# Altium schematic symbol library Swage.SchLib: 214 symbols (part 3 of 5)
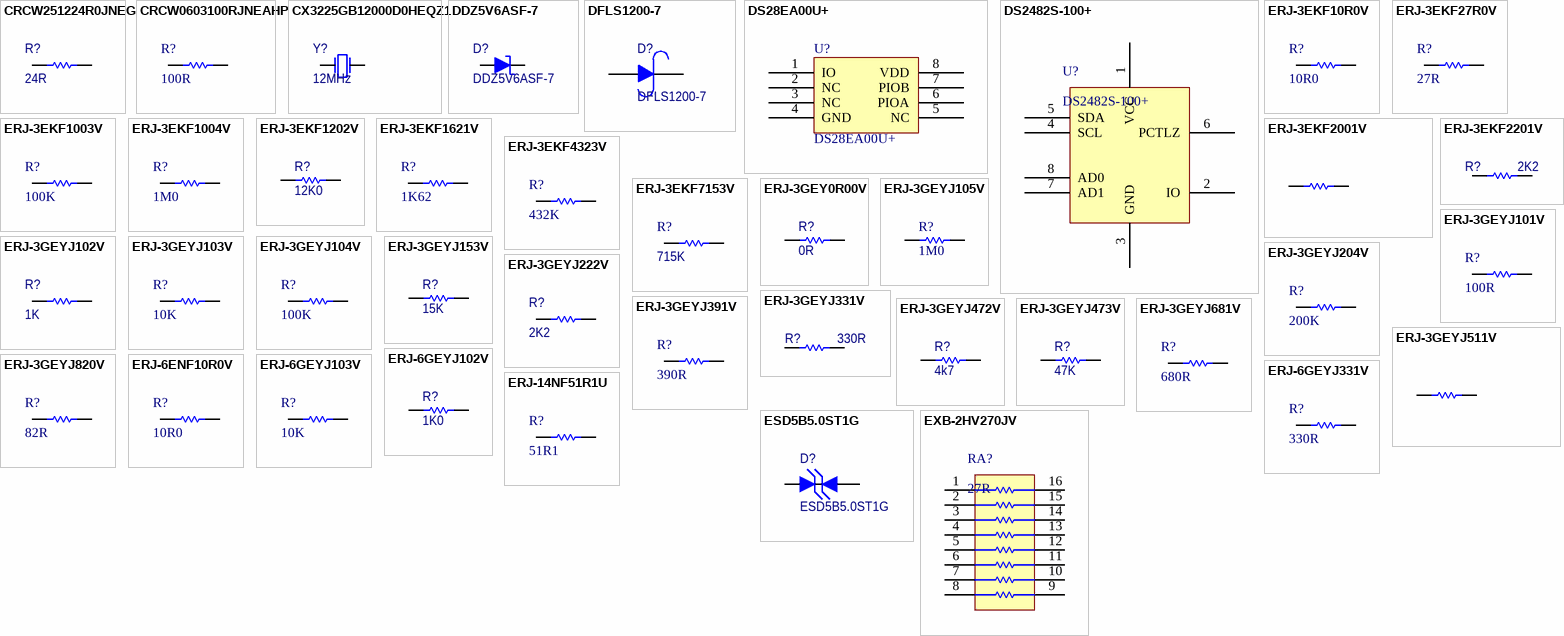
[diagram p7: symbols CRCW251224R0JNEG to EXB-2HV270JV]

## ERJ-3GEYJ222V
designator R?, comment 2K2
RES 2.2K OHM 1/10W 5% 0603 SMD; Manufacturer: Panasonic Electronic Components; Manufacturer Part Number: ERJ-3GEYJ222V; Power (Watts): 0.1W, 1/10W; Temperature Coefficient: ±200ppm/°C; OPI_VID: 101388; Supplier 1: Digi-Key; Supplier Part Number 1: P2.2KGTR-ND; RoHS: RoHS Compliant; Category: Resistors; Stock 1: 970000; Pricing 1: 5000=0.00176, 10000=0.00153, 25000=0.00134, 50000=0.00123, 125000=0.00121 (CAD); Resistance (Ohms): 2.2k; Composition: Thick Film; Features: -; Tolerance: ±5%; Package / Case: 0603 (1608 Metric); Supplier Device Package: 0603; Size / Dimension: 0.063" L x 0.031" W (1.60mm x 0.80mm); Height: 0.022" (0.55mm); Number of Terminations: 2; Packaging: Tape & Reel (TR); ComponentLink1URL: http://industrial.panasonic.com/www-cgi/jvcr13pz.cgi?E+PZ+3+AOA0001+ERJ3GEYJ222V+7+WW; ComponentLink1Description: http://industrial.panasonic.com/www-cgi/jvcr13pz.cgi?E+PZ+3+AOA0001+ERJ3GEYJ222V+7+WW
footprint RC0603 (Resistor, Capacitor, 0603)
pins: 1, 2

## ERJ-3GEYJ331V
designator R?, comment 330R
RES 330 OHM 1/10W 5% 0603 SMD; Manufacturer: Panasonic - ECG; Manufacturer Part Number: ERJ-3GEYJ331V; Resistance (Ohms): 330; Power (Watts): 0.1W, 1/10W; Temperature Coefficient: ±200ppm/°C; OPI_VID: 101171; Supplier 1: Digi-Key; Supplier Part Number 1: P330GCT-ND; RoHS: RoHS Compliant; Category: Resistors; Stock 1: 1334001; Pricing 1: 1=0.02, 50=0.0104, 100=0.0079, 250=0.00588, 500=0.00434, 1000=0.0029 (CAD); Composition: Thick Film; Features: -; Tolerance: ±5%; Size / Dimension: 0.063" L x 0.031" W (1.60mm x 0.80mm); Height: 0.022" (0.55mm); Number of Terminations: 2; Packaging: Cut Tape (CT); Package / Case: 0603 (1608 Metric); ComponentLink1URL: http://industrial.panasonic.com/www-cgi/jvcr13pz.cgi?E+PZ+3+AOA0001+ERJ3GEYJ331V+7+WW; ComponentLink1Description: http://industrial.panasonic.com/www-cgi/jvcr13pz.cgi?E+PZ+3+AOA0001+ERJ3GEYJ331V+7+WW
footprint RC0603 (Resistor, Capacitor, 0603)
pins: 1, 2

## ERJ-3GEYJ391V
designator R?, comment 390R
RES 390 OHM 1/10W 5% 0603 SMD; Manufacturer: Panasonic Electronic Components; Manufacturer Part Number: ERJ-3GEYJ391V; Resistance (Ohms): 390; Power (Watts): 0.1W, 1/10W; Temperature Coefficient: ±200ppm/°C; OPI_VID: 101357; Supplier 1: Digi-Key; RoHS: RoHS Compliant; Category: Resistors; Stock 1: 1115000; Pricing 1: 5000=0.00174, 10000=0.00151, 25000=0.00132, 50000=0.00122, 125000=0.00119 (CAD); Composition: Thick Film; Features: -; Tolerance: ±5%; Package / Case: 0603 (1608 Metric); Size / Dimension: 0.063" L x 0.031" W (1.60mm x 0.80mm); Height: 0.022" (0.55mm); Number of Terminations: 2; Packaging: Tape & Reel (TR); ComponentLink1URL: http://industrial.panasonic.com/www-cgi/jvcr13pz.cgi?E+PZ+3+AOA0001+ERJ3GEYJ391V+7+WW; ComponentLink1Description: http://industrial.panasonic.com/www-cgi/jvcr13pz.cgi?E+PZ+3+AOA0001+ERJ3GEYJ391V+7+WW; Supplier Part Number 1: P390GTR-ND
footprint RC0603 (Resistor, Capacitor, 0603)
pins: 1, 2

## ERJ-3GEYJ472V
designator R?, comment 4k7
RES 4.7K OHM 1/10W 5% 0603 SMD; Manufacturer: Panasonic - ECG; Manufacturer Part Number: ERJ-3GEYJ472V; Power (Watts): 0.1W, 1/10W; Temperature Coefficient: ±200ppm/°C; OPI_VID: 101175; Supplier 1: Digi-Key; Supplier Part Number 1: P4.7KGTR-ND; RoHS: RoHS Compliant; Category: Resistors; Stock 1: 6230000; Pricing 1: 5000=0.00174, 10000=0.00151, 25000=0.00132 (CAD); Resistance (Ohms): 4.7K; Composition: Thick Film; Features: -; Tolerance: ±5%; Size / Dimension: 0.063" L x 0.031" W (1.60mm x 0.80mm); Height: 0.022" (0.55mm); Number of Terminations: 2; Packaging: Tape & Reel (TR); Package / Case: 0603 (1608 Metric); ComponentLink1URL: http://industrial.panasonic.com/www-cgi/jvcr13pz.cgi?E+PZ+3+AOA0001+ERJ3GEYJ472V+7+WW; ComponentLink1Description: http://industrial.panasonic.com/www-cgi/jvcr13pz.cgi?E+PZ+3+AOA0001+ERJ3GEYJ472V+7+WW
footprint RC0603 (Resistor, Capacitor, 0603)
pins: 1, 2

## ERJ-3GEYJ473V
designator R?, comment 47K
RES 47K OHM 1/10W 5% 0603 SMD; Manufacturer: Panasonic - ECG; Manufacturer Part Number: ERJ-3GEYJ473V; Category 1: Resistors; Power (Watts): 0.1W, 1/10W; Temperature Coefficient: ±200ppm/°C; OPI_VID: 101043; Supplier 1: Digi-Key; Supplier Part Number 1: P47KGTR-ND; RoHS 1: RoHS Compliant; Description 1: RES 47K OHM 1/10W 5% 0603 SMD; Stock 1: 2125000; Pricing 1: 5000=0.00171, 10000=0.00149, 25000=0.00131 (USD); Resistance (Ohms): 47K; Composition: Thick Film; Features: -; Tolerance: ±5%; Size / Dimension: 0.063" L x 0.031" W (1.60mm x 0.80mm); Height: 0.018" (0.45mm); Lead Style: Surface Mount (SMD - SMT); Packaging: Tape & Reel (TR); Package / Case: 0603 (1608 Metric); ComponentLink1URL: http://industrial.panasonic.com/www-cgi/jvcr13pz.cgi?E+PZ+3+AOA0001+ERJ3GEYJ473V+7+WW; ComponentLink1Description: http://industrial.panasonic.com/www-cgi/jvcr13pz.cgi?E+PZ+3+AOA0001+ERJ3GEYJ473V+7+WW
footprint RC0603 (Resistor, Capacitor, 0603)
pins: 1, 2

## ERJ-3GEYJ511V
designator R?, comment 510R
RES 510 OHM 1/10W 5% 0603 SMD; Manufacturer: Panasonic Electronic Components; Manufacturer Part Number: ERJ-3GEYJ511V; Resistance (Ohms): 510; Power (Watts): 0.1W, 1/10W; Temperature Coefficient: ±200ppm/°C; OPI_VID: 101486; Supplier 1: Digi-Key; Supplier Part Number 1: P510GCT-ND; RoHS: RoHS Compliant; Category: Resistors; Stock 1: 298352; Pricing 1: 1=0.12, 50=0.011, 100=0.0083, 250=0.0062, 500=0.00458, 1000=0.00305 (CAD); Packaging: Cut Tape (CT); Composition: Thick Film; Features: -; Tolerance: ±5%; Package / Case: 0603 (1608 Metric); Supplier Device Package: 0603; Size / Dimension: 0.063" L x 0.031" W (1.60mm x 0.80mm); Height: 0.022" (0.55mm); Number of Terminations: 2; ComponentLink1URL: http://industrial.panasonic.com/www-cgi/jvcr13pz.cgi?E+PZ+3+AOA0001+ERJ3GEYJ511V+7+WW; ComponentLink1Description: http://industrial.panasonic.com/www-cgi/jvcr13pz.cgi?E+PZ+3+AOA0001+ERJ3GEYJ511V+7+WW
footprint RC0603 (Resistor, Capacitor, 0603)
pins: 1, 2

## ERJ-3GEYJ681V
designator R?, comment 680R
RES 680 OHM 1/10W 5% 0603 SMD; Manufacturer: Panasonic Electronic Components; Manufacturer Part Number: ERJ-3GEYJ681V; Resistance (Ohms): 680; Power (Watts): 0.1W, 1/10W; Temperature Coefficient: ±200ppm/°C; OPI_VID: 100570; Supplier 1: Digi-Key; Supplier Part Number 1: P680GTR-ND; RoHS: RoHS Compliant; Category: Resistors; Stock 1: 1750000; Pricing 1: 5000=0.0018, 10000=0.00156, 25000=0.00137, 50000=0.00126, 125000=0.00123 (CAD); Composition: Thick Film; Features: -; Tolerance: ±5%; Package / Case: 0603 (1608 Metric); Supplier Device Package: 0603; Size / Dimension: 0.063" L x 0.031" W (1.60mm x 0.80mm); Height: 0.022" (0.55mm); Number of Terminations: 2; Packaging: Tape & Reel (TR); ComponentLink1URL: http://industrial.panasonic.com/www-cgi/jvcr13pz.cgi?E+PZ+3+AOA0001+ERJ3GEYJ681V+7+WW; ComponentLink1Description: http://industrial.panasonic.com/www-cgi/jvcr13pz.cgi?E+PZ+3+AOA0001+ERJ3GEYJ681V+7+WW
footprint RC0603 (Resistor, Capacitor, 0603)
pins: 1, 2

## ERJ-3GEYJ820V
designator R?, comment 82R
RES 82 OHM 1/10W 5% 0603 SMD; Manufacturer: Panasonic Electronic Components; Manufacturer Part Number: ERJ-3GEYJ820V; Resistance (Ohms): 82; Power (Watts): 0.1W, 1/10W; Temperature Coefficient: ±200ppm/°C; OPI_VID: 101409; Supplier 1: Digi-Key; Supplier Part Number 1: P82GTR-ND; RoHS: RoHS Compliant; Category: Resistors; Stock 1: 35000; Pricing 1: 5000=0.0018, 10000=0.00156, 25000=0.00137, 50000=0.00126, 125000=0.00123 (CAD); Composition: Thick Film; Features: -; Tolerance: ±5%; Package / Case: 0603 (1608 Metric); Supplier Device Package: 0603; Size / Dimension: 0.063" L x 0.031" W (1.60mm x 0.80mm); Height: 0.022" (0.55mm); Number of Terminations: 2; Packaging: Tape & Reel (TR); ComponentLink1URL: http://industrial.panasonic.com/www-cgi/jvcr13pz.cgi?E+PZ+3+AOA0001+ERJ3GEYJ820V+7+WW; ComponentLink1Description: http://industrial.panasonic.com/www-cgi/jvcr13pz.cgi?E+PZ+3+AOA0001+ERJ3GEYJ820V+7+WW
footprint RC0603 (Resistor, Capacitor, 0603)
pins: 1, 2

## ERJ-6ENF10R0V
designator R?, comment 10R0
RES 10.0 OHM 1/8W 1% 0805 SMD; Manufacturer: Panasonic Electronic Components; Manufacturer Part Number: ERJ-6ENF10R0V; Resistance (Ohms): 10; Power (Watts): 0.125W, 1/8W; Temperature Coefficient: ±100ppm/°C; OPI_VID: xxxxx; Supplier 1: Digi-Key; RoHS: RoHS Compliant; Category: Resistors; Stock 1: 710000; Pricing 1: 5000=0.00521, 10000=0.00452, 25000=0.00397, 50000=0.00364, 125000=0.00357 (CAD); Composition: Thick Film; Features: -; Tolerance: ±1%; Package / Case: 0805 (2012 Metric); Size / Dimension: 0.079" L x 0.049" W (2.00mm x 1.25mm); Height: 0.028" (0.70mm); Number of Terminations: 2; Packaging: Tape & Reel (TR); ComponentLink1URL: http://industrial.panasonic.com/www-cgi/jvcr13pz.cgi?E+PZ+3+AOA0002+ERJ6ENF10R0V+7+WW; ComponentLink1Description: http://industrial.panasonic.com/www-cgi/jvcr13pz.cgi?E+PZ+3+AOA0002+ERJ6ENF10R0V+7+WW; Supplier Part Number 1: P10.0CTR-ND
footprint RC0805
pins: 1, 2

## ERJ-6GEYJ102V
designator R?, comment 1K0
RES 1.0K OHM 1/8W 5% 0805 SMD; Manufacturer: Panasonic - ECG; Manufacturer Part Number: ERJ-6GEYJ102V; Resistance (Ohms): 1K; Power (Watts): 0.125W, 1/8W; Temperature Coefficient: ±200ppm/°C; OPI_VID: 101218; Supplier 1: Digi-Key; Stock 1: 2885000; Composition: Thick Film; Features: -; Tolerance: ±5%; Size / Dimension: 0.079" L x 0.049" W (2.00mm x 1.25mm); Height: 0.028" (0.70mm); Number of Terminations: 2; Packaging: Tape & Reel (TR); Package / Case: 0805 (2012 Metric); ComponentLink1URL: http://industrial.panasonic.com/www-cgi/jvcr13pz.cgi?E+PZ+3+AOA0001+ERJ6GEYJ102V+7+WW; ComponentLink1Description: http://industrial.panasonic.com/www-cgi/jvcr13pz.cgi?E+PZ+3+AOA0001+ERJ6GEYJ102V+7+WW; Supplier Part Number 1: P1.0KATR-ND; RoHS: RoHS Compliant; Category: Resistors; Pricing 1: 5000=0.00301, 10000=0.00262, 25000=0.0023 (CAD)
footprint 0805
footprint RC0805
pins: 1, 2

## ERJ-6GEYJ103V
designator R?, comment 10K
RES 10K OHM 1/8W 5% 0805 SMD; Manufacturer: Panasonic Electronic Components; Manufacturer Part Number: ERJ-6GEYJ103V; Power (Watts): 0.125W, 1/8W; Temperature Coefficient: ±200ppm/°C; OPI_VID: 101242; Supplier 1: Digi-Key; RoHS: RoHS Compliant; Category: Resistors; Stock 1: 5145000; Pricing 1: 5000=0.00304, 10000=0.00264, 25000=0.00232, 50000=0.00213, 125000=0.00208 (CAD); Resistance (Ohms): 10k; Composition: Thick Film; Features: -; Tolerance: ±5%; Package / Case: 0805 (2012 Metric); Size / Dimension: 0.079" L x 0.049" W (2.00mm x 1.25mm); Height: 0.028" (0.70mm); Number of Terminations: 2; Packaging: Tape & Reel (TR); ComponentLink1URL: http://industrial.panasonic.com/www-cgi/jvcr13pz.cgi?E+PZ+3+AOA0001+ERJ6GEYJ103V+7+WW; ComponentLink1Description: http://industrial.panasonic.com/www-cgi/jvcr13pz.cgi?E+PZ+3+AOA0001+ERJ6GEYJ103V+7+WW; Supplier Part Number 1: P10KATR-ND
footprint RC0805
pins: 1, 2

## ERJ-6GEYJ331V
designator R?, comment 330R
RES 330 OHM 1/8W 5% 0805 SMD; Manufacturer: Panasonic Electronic Components; Manufacturer Part Number: ERJ-6GEYJ331V; Resistance (Ohms): 330; Power (Watts): 0.125W, 1/8W; Temperature Coefficient: ±200ppm/°C; OPI_VID: 101386; Supplier 1: Digi-Key; RoHS: RoHS Compliant; Category: Resistors; Stock 1: 895000; Pricing 1: 5000=0.00304, 10000=0.00264, 25000=0.00232, 50000=0.00213, 125000=0.00208 (CAD); Composition: Thick Film; Features: -; Tolerance: ±5%; Package / Case: 0805 (2012 Metric); Size / Dimension: 0.079" L x 0.049" W (2.00mm x 1.25mm); Height: 0.028" (0.70mm); Number of Terminations: 2; Packaging: Tape & Reel (TR); ComponentLink1URL: http://industrial.panasonic.com/www-cgi/jvcr13pz.cgi?E+PZ+3+AOA0001+ERJ6GEYJ331V+7+WW; ComponentLink1Description: http://industrial.panasonic.com/www-cgi/jvcr13pz.cgi?E+PZ+3+AOA0001+ERJ6GEYJ331V+7+WW; Supplier Part Number 1: P330ATR-ND
footprint RC0805
pins: 1, 2

## ERJ-14NF51R1U
designator R?, comment 51R1
RES 51.1 OHM 1/2W 1% 1210 SMD; Manufacturer: Panasonic Electronic Components; Manufacturer Part Number: ERJ-14NF51R1U; Resistance (Ohms): 51.1; Power (Watts): 0.5W, 1/2W; Temperature Coefficient: ±100ppm/°C; OPI_VID: 101382; Supplier 1: Digi-Key; RoHS: RoHS Compliant; Category: Resistors; Stock 1: 20000; Pricing 1: 5000=0.03979, 10000=0.03714, 25000=0.03528, 50000=0.03456, 125000=0.03382 (CAD); Composition: Thick Film; Features: -; Tolerance: ±1%; Package / Case: 1210 (3225 Metric); Supplier Device Package: 1210; Size / Dimension: 0.126" L x 0.098" W (3.20mm x 2.50mm); Height: 0.028" (0.70mm); Number of Terminations: 2; Packaging: Tape & Reel (TR); ComponentLink1URL: http://industrial.panasonic.com/www-cgi/jvcr13pz.cgi?E+PZ+3+AOA0002+ERJ14NF51R1U+7+WW; ComponentLink1Description: http://industrial.panasonic.com/www-cgi/jvcr13pz.cgi?E+PZ+3+AOA0002+ERJ14NF51R1U+7+WW; Supplier Part Number 1: P51.1AATR-ND
footprint RC3225X07N (Chip Resistor, 2-Leads, Body 3.2x2.5mm, IPC Medium Density)
pins: 1, 2

## ESD5B5.0ST1G
designator D?
TVS BIDIRECT 50W SOD523; Manufacturer: ON Semiconductor; Voltage - Reverse Standoff (Typ): 5V; Voltage - Breakdown: 5.8V; Polarization: Bidirectional; OPI_VID: 101019; Supplier 1: Digi-Key; Supplier Part Number 1: ESD5B5.0ST1GOSTR-ND; Manufacturer Part Number: ESD5B5.0ST1G; RoHS: RoHS Compliant; Category: Circuit Protection; Stock 1: 240000; Pricing 1: 3000=0.06935, 6000=0.06253, 12000=0.05571, 24000=0.0523, 48000=0.04661, 96000=0.04548 (CAD); Power (Watts): 50W; Mounting Type: Surface Mount; Package / Case: SC-79, SOD-523; Supplier Device Package: SOD-523; Packaging: Tape & Reel (TR); ComponentLink1URL: http://www.onsemi.com/pub_link/Collateral/ESD5B5.0ST1G.PDF; ComponentLink1Description: http://www.onsemi.com/pub_link/Collateral/ESD5B5.0ST1G.PDF
footprint SOD-523 (Molded Diode, 2-Leads, Body 1.2x0.8mm, IPC Medium Density)
pins: 1, 2

## EXB-2HV270JV
designator RA?, comment 27R
RES ARRAY 27 OHM 8 RES 1506; Manufacturer: Panasonic Electronic Components; Manufacturer Part Number: EXB-2HV270JV; Circuit Type: Isolated; Resistance (Ohms): 27; Number of Resistors: 8; Power Per Element: 62.5mW; Tolerance: ±5%; Temperature Coefficient: ±200ppm/°C; OPI_VID: 101358; Supplier 1: Digi-Key; RoHS: RoHS Compliant; Category: Resistors; Stock 1: 30000; Pricing 1: 5000=0.04282, 10000=0.03997, 25000=0.03797, 50000=0.0372, 125000=0.0364 (CAD); Number of Pins: 16; Applications: -; Mounting Type: Surface Mount; Package / Case: 1506 (3816 Metric), Convex; Supplier Device Package: 0402 x 8; Size / Dimension: 0.150" L x 0.063" W (3.80mm x 1.60mm); Height: 0.018" (0.45mm); Packaging: Tape & Reel (TR); Operating Temperature: -55°C ~ 125°C; ComponentLink1URL: http://industrial.panasonic.com/www-cgi/jvcr13pz.cgi?E+PZ+3+AOC0001+EXB2HV270JV+7+WW; ComponentLink1Description: http://industrial.panasonic.com/www-cgi/jvcr13pz.cgi?E+PZ+3+AOC0001+EXB2HV270JV+7+WW; Supplier Part Number 1: Y1270TR-ND
footprint EXB2HV (LCC, 16-Pins, Body 3.9x1.7mm (max), Pitch 0.50mm, IPC Medium Density)
pins: 1, 2, 3, 4, 5, 6, 7, 8, 9, 10, 11, 12, 13, 14, 15, 16

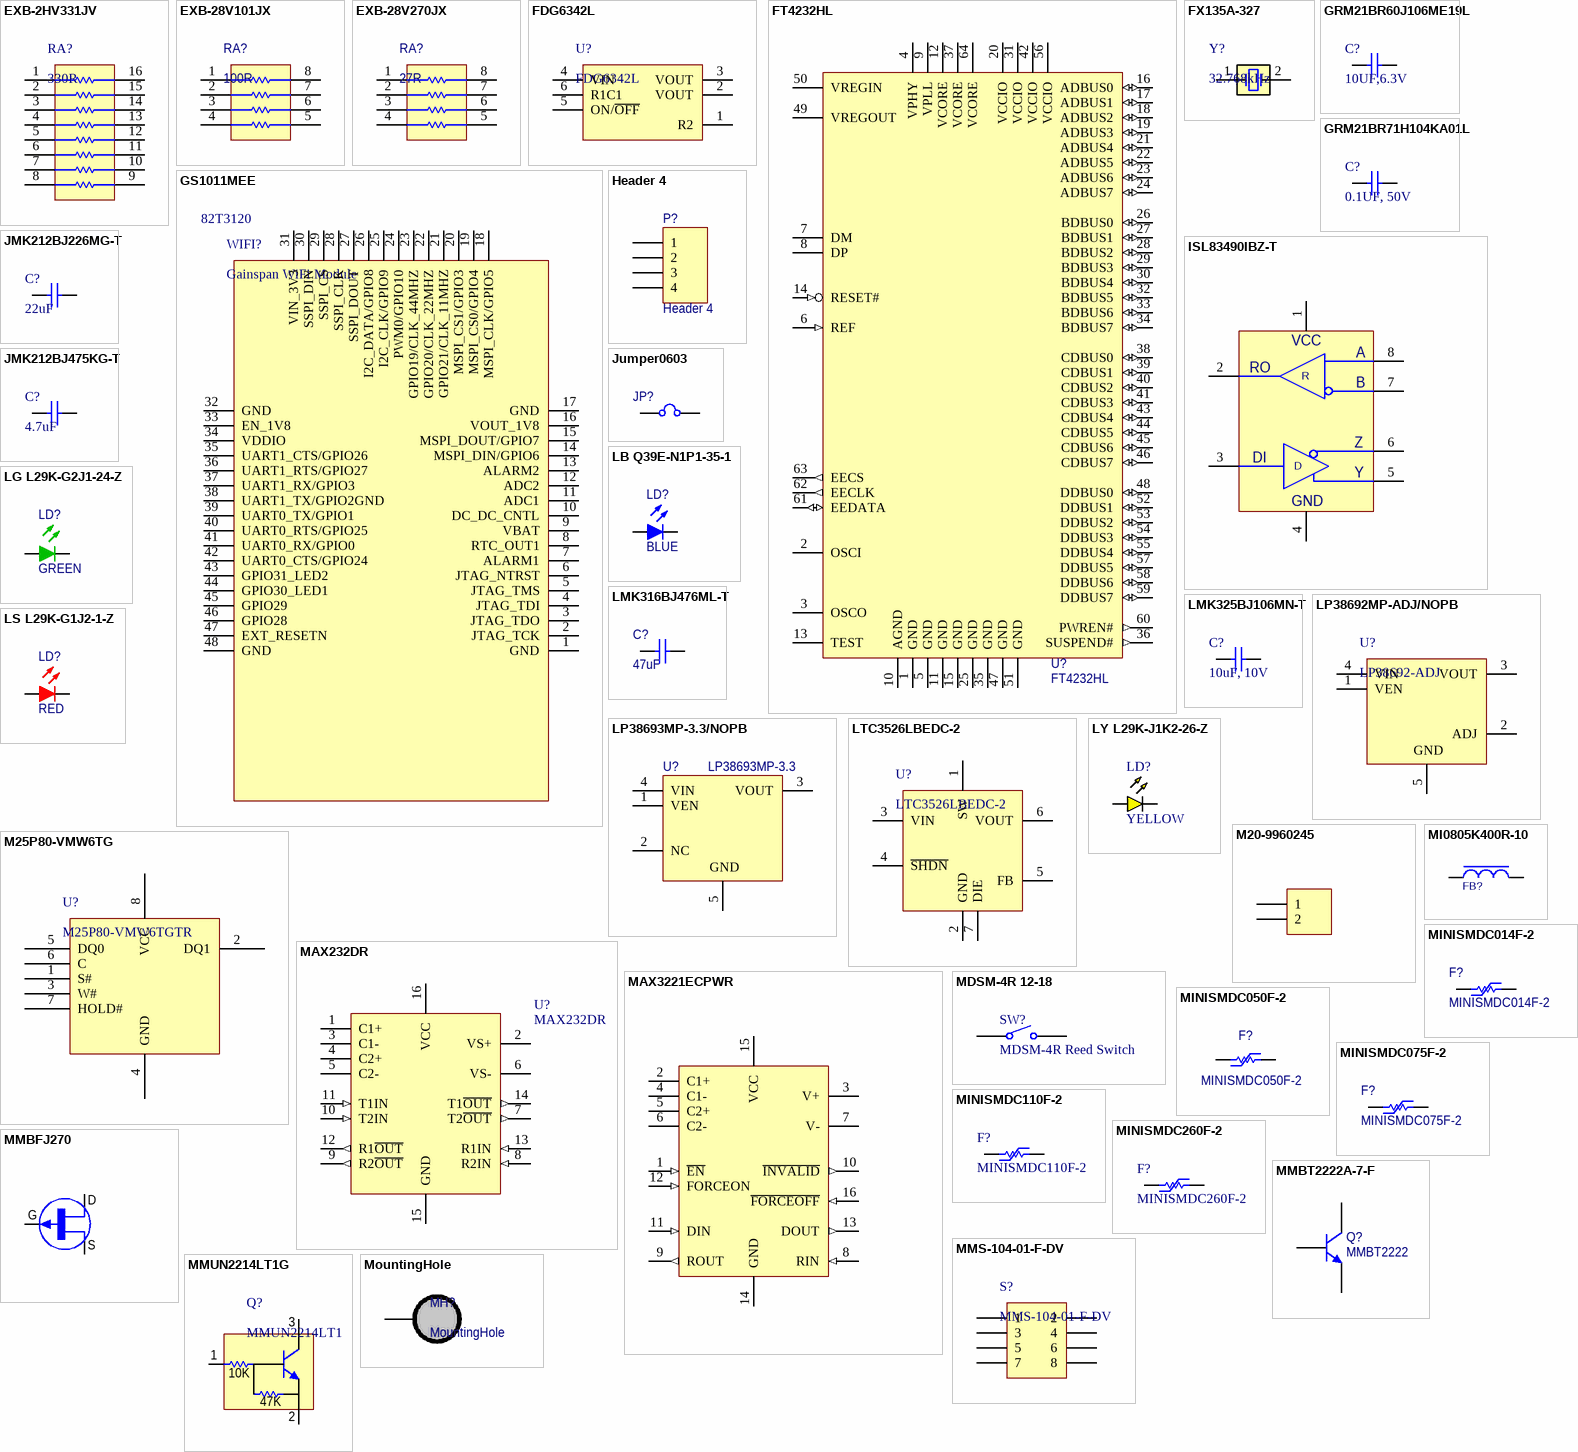
[diagram p3: symbols EXB-2HV331JV to MountingHole]

## EXB-2HV331JV
designator RA?, comment 330R
RES ARRAY 330 OHM 8 RES 1506; Manufacturer: Panasonic Electronic Components; Manufacturer Part Number: EXB-2HV331JV; Circuit Type: Isolated; Resistance (Ohms): 330; Number of Resistors: 8; Power Per Element: 62.5mW; Tolerance: ±5%; Temperature Coefficient: ±200ppm/°C; OPI_VID: 101421; Supplier 1: Digi-Key; RoHS: RoHS Compliant; Category: Resistors; Stock 1: 55000; Pricing 1: 5000=0.0375, 10000=0.035, 25000=0.03325, 50000=0.03258, 125000=0.03188 (USD); Number of Pins: 16; Applications: -; Mounting Type: Surface Mount; Package / Case: 1506 (3816 Metric), Convex; Supplier Device Package: 0402 x 8; Size / Dimension: 0.150" L x 0.063" W (3.80mm x 1.60mm); Height: 0.018" (0.45mm); Packaging: Tape & Reel (TR); Operating Temperature: -55°C ~ 125°C; ComponentLink1URL: http://industrial.panasonic.com/www-cgi/jvcr13pz.cgi?E+PZ+3+AOC0001+EXB2HV331JV+7+WW; ComponentLink1Description: http://industrial.panasonic.com/www-cgi/jvcr13pz.cgi?E+PZ+3+AOC0001+EXB2HV331JV+7+WW; Supplier Part Number 1: Y1331TR-ND
footprint EXB2HV (LCC, 16-Pins, Body 3.9x1.7mm (max), Pitch 0.50mm, IPC Medium Density)
pins: 1, 2, 3, 4, 5, 6, 7, 8, 9, 10, 11, 12, 13, 14, 15, 16

## EXB-28V101JX
designator RA?, comment 100R
RES ARRAY 100 OHM 4 RES 0804; Manufacturer: Panasonic Electronic Components; Manufacturer Part Number: EXB-28V101JX; Circuit Type: Isolated; Resistance (Ohms): 100; Number of Resistors: 4; Power Per Element: 31mW; Tolerance: ±5%; Temperature Coefficient: ±200ppm/°C; OPI_VID: 101389; Supplier 1: Digi-Key; Supplier Part Number 1: Y7101TR-ND; RoHS: RoHS Compliant; Category: Resistors; Stock 1: 200000; Pricing 1: 10000=0.01298, 30000=0.01141, 50000=0.01047, 100000=0.01025 (CAD); Number of Pins: 8; Applications: -; Mounting Type: Surface Mount; Package / Case: 0804 (2010 Metric), Convex; Supplier Device Package: 0402 x 4; Size / Dimension: 0.079" L x 0.039" W (2.00mm x 1.00mm); Height: 0.014" (0.35mm); Packaging: Tape & Reel (TR); Operating Temperature: -55°C ~ 125°C; ComponentLink1URL: http://industrial.panasonic.com/www-cgi/jvcr13pz.cgi?E+PZ+3+AOC0001+EXB28V101JX+7+WW; ComponentLink1Description: http://industrial.panasonic.com/www-cgi/jvcr13pz.cgi?E+PZ+3+AOC0001+EXB28V101JX+7+WW
footprint exb28v (LCC, 8-Pins, Body 2.1x1.7mm (max), Pitch 0.50mm, IPC Medium Density)
pins: 1, 2, 3, 4, 5, 6, 7, 8

## EXB-28V270JX
designator RA?, comment 27R
RES ARRAY 27 OHM 4 RES 0804; Manufacturer: Panasonic Electronic Components; Manufacturer Part Number: EXB-28V270JX; Circuit Type: Isolated; Resistance (Ohms): 27; Number of Resistors: 4; Power Per Element: 31mW; Tolerance: ±5%; Temperature Coefficient: ±200ppm/°C; OPI_VID: xxxxx; Supplier 1: Digi-Key; Supplier Part Number 1: Y7270TR-ND; RoHS: RoHS Compliant; Category: Resistors; Stock 1: 40000; Pricing 1: 10000=0.01298, 30000=0.01141, 50000=0.01047, 100000=0.01025 (CAD); Number of Pins: 8; Applications: -; Mounting Type: Surface Mount; Package / Case: 0804 (2010 Metric), Convex; Supplier Device Package: 0402 x 4; Size / Dimension: 0.079" L x 0.039" W (2.00mm x 1.00mm); Height: 0.014" (0.35mm); Packaging: Tape & Reel (TR); Operating Temperature: -55°C ~ 125°C; ComponentLink1URL: http://industrial.panasonic.com/www-cgi/jvcr13pz.cgi?E+PZ+3+AOC0001+EXB28V270JX+7+WW; ComponentLink1Description: http://industrial.panasonic.com/www-cgi/jvcr13pz.cgi?E+PZ+3+AOC0001+EXB28V270JX+7+WW
footprint EXB28V (LCC, 8-Pins, Body 2.1x1.7mm (max), Pitch 0.50mm, IPC Medium Density)
pins: 1, 2, 3, 4, 5, 6, 7, 8

## FDG6342L
designator U?
IC LOAD SWITCH INTEGRATED SC70-6; Manufacturer: Fairchild Semiconductor; Number of Outputs: 1; Rds (On): 150 mOhm; Internal Switch(s): Yes; Current Limit: 1.5A; Voltage - Input: 2.5 V ~ 8 V; OPI_VID: 101348; Supplier 1: Digi-Key; Manufacturer Part Number: FDG6342L; RoHS: RoHS Compliant; Category: Integrated Circuits (ICs); Stock 1: 24000; Pricing 1: 3000=0.13942, 6000=0.13097, 15000=0.12252, 30000=0.11238, 75000=0.10816, 150000=0.10393 (CAD); Type: High Side Switch; Operating Temperature: -55°C ~ 150°C; Mounting Type: Surface Mount; Package / Case: 6-TSSOP, SC-88, SOT-363; Supplier Device Package: SC-70-6; Packaging: Tape & Reel (TR); ComponentLink1URL: http://www.fairchildsemi.com/ds/FD/FDG6342L.pdf; ComponentLink1Description: http://www.fairchildsemi.com/ds/FD/FDG6342L.pdf; Supplier Part Number 1: FDG6342LTR-ND
footprint TS5A3160 (SOT23, 6-Leads, Body 2.2x2.4mm (max), Pitch 0.65mm, IPC Medium Density)
pins: 1 R2, 2 VOUT, 3 VOUT, 4 VIN, 5 ON/~{OFF}, 6 R1C1

## FT4232HL
designator U?
Quad High Speed USB to Multipurpose UART, MPSSE IC; LQFP-64; Manufacturer: Future Technology Devices International Ltd. (FTDI); OPI_VID: 101422; Note: *; DigiKeyPartNo: 768-1026-1-ND; Manufacturer Part Number: FT4232HL; ComponentLink1Description: Manufacturer Link; ComponentLink1URL: http://www.ftdichip.com/Products/FT4232H.htm; ComponentLink2Description: Datasheet; ComponentLink2URL: http://www.ftdichip.com/Documents/DataSheets/DS_FT4232H_V206.pdf; DatasheetVersion: ver.2.06, Sep-2009; LatestRevisionNote: IPC-7351 Footprint Added.; PackageDescription: LQFP, 64-Leads, Body 10x10mm (max), Pitch 0.50mm, IPC Medium Density; PackageReference: LQFP50P1000X1000X16-64N; PackageVersion: Jan-2011; Published: 27-Oct-2009; Publisher: FTDI Ltd.; Supplier 1: Digi-Key; Supplier 2: Newark; Supplier 3: Farnell; Supplier Part Number 1: 768-1026-2-ND; Supplier Part Number 2: 80P4241; Supplier Part Number 3: 1697463
footprint LQFP50P1000X1000X16-64N (LQFP, 64-Leads, Body 10x10mm (max), Pitch 0.50mm, IPC Medium Density)
pins: 1 GND (power), 2 OSCI, 3 OSCO, 4 VPHY (power), 5 GND (power), 6 REF (in), 7 DM, 8 DP, 9 VPLL (power), 10 AGND (power), 11 GND (power), 12 VCORE (power), 13 TEST, 14 RESET# (in), 15 GND (power), 16 ADBUS0 (io), 17 ADBUS1 (io), 18 ADBUS2 (io), 19 ADBUS3 (io), 20 VCCIO (power), 21 ADBUS4 (io), 22 ADBUS5 (io), 23 ADBUS6 (io), 24 ADBUS7 (io), 25 GND (power), 26 BDBUS0 (io), 27 BDBUS1 (io), 28 BDBUS2 (io), 29 BDBUS3 (io), 30 BDBUS4 (io), 31 VCCIO (power), 32 BDBUS5 (io), 33 BDBUS6 (io), 34 BDBUS7 (io), 35 GND (power), 36 SUSPEND# (out), 37 VCORE (power), 38 CDBUS0 (io), 39 CDBUS1 (io), 40 CDBUS2 (io), 41 CDBUS3 (io), 42 VCCIO (power), 43 CDBUS4 (io), 44 CDBUS5 (io), 45 CDBUS6 (io), 46 CDBUS7 (io), 47 GND (power), 48 DDBUS0 (io), 49 VREGOUT (power), 50 VREGIN (power), 51 GND (power), 52 DDBUS1 (io), 53 DDBUS2 (io), 54 DDBUS3 (io), 55 DDBUS4 (io), 56 VCCIO (power), 57 DDBUS5 (io), 58 DDBUS6 (io), 59 DDBUS7 (io), 60 PWREN# (out), 61 EEDATA (io), 62 EECLK (out), 63 EECS (out), 64 VCORE (power)

## FX135A-327
designator Y?, comment 32.768kHz
CRYSTAL 32.768KHZ 12.5PF SMD; Manufacturer: Fox Electronics; Manufacturer Part Number: FX135A-327; Frequency Tolerance: ±20ppm; ESR (Equivalent Series Resistance): 70 kOhm; Operating Mode: Fundamental; OPI_VID: 101361; Supplier 1: Digi-Key; RoHS: RoHS Compliant; Category: Crystals and Oscillators; Stock 1: 27000; Pricing 1: 3000=1.36612, 6000=1.31733, 15000=1.26854 (CAD); Type: kHz Crystal (Tuning Fork); Frequency: 32.768kHz; Frequency Stability: -; Load Capacitance: 12.5pF; Operating Temperature: -40°C ~ 85°C; Ratings: -; Mounting Type: Surface Mount; Package / Case: 2-SMD; Size / Dimension: 0.126" L x 0.059" W (3.20mm x 1.50mm); Height: 0.035" (0.90mm); Packaging: Tape & Reel (TR); ComponentLink1URL: http://www.foxonline.com/pdfs/FX135.pdf; ComponentLink1Description: http://www.foxonline.com/pdfs/FX135.pdf; Supplier Part Number 1: 631-1002-2-ND
footprint FX135 (Crystal, SMD, 3.2mm x 1.5mm, Low Profile)
pins: 1 OSC1, 2 OSC2

## GRM21BR60J106ME19L
designator C?, comment 10UF,6.3V
CAP CER 10UF 6.3V 20% X5R 0805; Manufacturer: Murata Electronics North America; Manufacturer Part Number: GRM21BR60J106ME19L; Capacitance: 10µF; OPI_VID: 101473; Supplier 1: Digi-Key; RoHS: RoHS Compliant; Category: Capacitors; Stock 1: 78000; Pricing 1: 3000=0.03597, 6000=0.03291, 9000=0.03061, 15000=0.02908, 30000=0.02755, 75000=0.02525, 150000=0.02086 (CAD); Packaging: Tape & Reel (TR); Voltage - Rated: 6.3V; Tolerance: ±20%; Temperature Coefficient: X5R; Mounting Type: Surface Mount, MLCC; Operating Temperature: -55°C ~ 85°C; Applications: General Purpose; Ratings: -; Package / Case: 0805 (2012 Metric); Size / Dimension: 0.079" L x 0.049" W (2.00mm x 1.25mm); Height - Seated (Max): -; Thickness (Max): 0.053" (1.35mm); Lead Spacing: -; Features: -; Lead Style: -; ComponentLink1URL: http://www.murata.com/products/catalog/pdf/c02e.pdf; ComponentLink1Description: http://www.murata.com/products/catalog/pdf/c02e.pdf; Supplier Part Number 1: 490-1718-2-ND
footprint RC0805
pins: 1, 2

## GRM21BR71H104KA01L
designator C?, comment 0.1UF, 50V
CAP CER 0.1UF 50V 10% X7R 0805; Manufacturer: Murata Electronics North America; Manufacturer Part Number: GRM21BR71H104KA01L; Capacitance: 0.1µF; OPI_VID: xxxxx; Supplier 1: Digi-Key; RoHS: RoHS Compliant; Category: Capacitors; Stock 1: 2547000; Pricing 1: 3000=0.01039, 6000=0.00956, 9000=0.00872, 15000=0.00831, 30000=0.00789, 75000=0.00706, 150000=0.00571 (CAD); Packaging: Tape & Reel (TR); Voltage - Rated: 50V; Tolerance: ±10%; Temperature Coefficient: X7R; Mounting Type: Surface Mount, MLCC; Operating Temperature: -55°C ~ 125°C; Applications: General Purpose; Ratings: -; Package / Case: 0805 (2012 Metric); Size / Dimension: 0.079" L x 0.049" W (2.00mm x 1.25mm); Height - Seated (Max): -; Thickness (Max): 0.053" (1.35mm); Lead Spacing: -; Features: -; Lead Style: -; ComponentLink1URL: http://www.murata.com/products/catalog/pdf/c02e.pdf; ComponentLink1Description: http://www.murata.com/products/catalog/pdf/c02e.pdf; Supplier Part Number 1: 490-1666-2-ND
footprint RC0805
pins: 1, 2

## GS1011MEE
designator WIFI?, comment Gainspan WiFi Module  Supplier Part Number 1: 82T3120
GAINSPAN - GS1011MEE-SMP - MODULE, WIFI, W/ ANT CON, NO PA; Compliance Standard: IEEE 802.11; Frequency RF: 2.497; Transmit Power: 63; Module Interface: I2; Module Applications: Industrial Automation and Networking; OPI_VID: xxxxx; Supplier 1: Newark; Manufacturer: GAINSPAN; Manufacturer Part Number: GS1011MEE-SMP; RoHS: YES; Stock 1: 1; Pricing 1: 1=65.02, 10=63.01, 25=61.3, 50=59.29, 100=56.72 (USD); ComponentLink1URL: http://www.gainspan.com/docs2/GS1011M-PB.pdf; ComponentLink1Description: http://www.gainspan.com/docs2/GS1011M-PB.pdf
footprint GS1011MEP (Wifi Module, Gainspan)
pins: 1 GND, 2 JTAG_TCK, 3 JTAG_TDO, 4 JTAG_TDI, 5 JTAG_TMS, 6 JTAG_NTRST, 7 ALARM1, 8 RTC_OUT1, 9 VBAT, 10 DC_DC_CNTL, 11 ADC1, 12 ADC2, 13 ALARM2, 14 MSPI_DIN/GPIO6, 15 MSPI_DOUT/GPIO7, 16 VOUT_1V8, 17 GND, 18 MSPI_CLK/GPIO5, 19 MSPI_CS0/GPIO4, 20 MSPI_CS1/GPIO3, 21 GPIO21/CLK_11MHZ, 22 GPIO20/CLK_22MHZ, 23 GPIO19/CLK_44MHZ, 24 PWM0/GPIO10, 25 I2C_CLK/GPIO9, 26 I2C_DATA/GPIO8, 27 SSPI_DOUT, 28 SSPI_CLK, 29 SSPI_CS, 30 SSPI_DIN, 31 VIN_3V3, 32 GND, 33 EN_1V8, 34 VDDIO, 35 UART1_CTS/GPIO26, 36 UART1_RTS/GPIO27, 37 UART1_RX/GPIO3, 38 UART1_TX/GPIO2GND, 39 UART0_TX/GPIO1, 40 UART0_RTS/GPIO25, 41 UART0_RX/GPIO0, 42 UART0_CTS/GPIO24, 43 GPIO31_LED2, 44 GPIO30_LED1, 45 GPIO29, 46 GPIO28, 47 EXT_RESETN, 48 GND

## Header 4
designator P?
Header, 4-Pin; Manufacturer: 3M; Manufacturer Part Number: 2340-6111TG; OPI_VID: 100210; LatestRevisionDate: 17-Jul-2002; LatestRevisionNote: Re-released for DXP Platform.; Publisher: Altium Limited
footprint HDR1X4 (Connector; Header; 4 Position)
pins: 1, 2, 3, 4

## ISL83490IBZ-T
designator U?, comment ISL83490IBZ
IC TXRX RS485/422 3.3V LP 8SOIC; Manufacturer: Intersil; Manufacturer Part Number: ISL83490IBZ-T; Number of Drivers/Receivers: 1/1; Protocol: RS422, RS485; Voltage - Supply: 3 V ~ 3.6 V; OPI_VID: 101471; Supplier 1: Digi-Key; Supplier Part Number 1: ISL83490IBZ-TDKR-ND; RoHS: RoHS Compliant; Category: Integrated Circuits (ICs); Stock 1: 4927; Pricing 1: 1=1.66, 25=1.0968, 100=0.9291 (CAD); Packaging: Digi-Reel®; Type: Transceiver; Mounting Type: Surface Mount; Package / Case: 8-SOIC (0.154", 3.90mm Width); Supplier Device Package: 8-SOIC N; ComponentLink1URL: http://www.intersil.com/content/dam/Intersil/documents/fn60/fn6052.pdf; ComponentLink1Description: http://www.intersil.com/content/dam/Intersil/documents/fn60/fn6052.pdf
footprint SOIC127P600X265-8N (SOIC, 8-Leads, Body 5.0x4.0mm (max), Pitch 1.27mm, IPC Medium Density)
pins: 1 RO, 2 ~{RE}, 3 DE, 4 DI, 5 GND, 6 A, 7 B, 8 VCC
text: R; Z; D; Y

## JMK212BJ226MG-T
designator C?, comment 22uF
CAP CER 22UF 6.3V 20% X5R 0805; Manufacturer: Taiyo Yuden; Manufacturer Part Number: JMK212BJ226MG-T; Capacitance: 22µF; OPI_VID: 101194; Supplier 1: Digi-Key; RoHS: RoHS Compliant; Category: Capacitors; Stock 1: 123000; Pricing 1: 3000=0.06005, 6000=0.05555, 9000=0.05254, 15000=0.04984, 30000=0.04804 (CAD); Voltage - Rated: 6.3V; Tolerance: ±20%; Temperature Coefficient: X5R; Mounting Type: Surface Mount, MLCC; Operating Temperature: -55°C ~ 85°C; Applications: General Purpose; Ratings: -; Package / Case: 0805 (2012 Metric); Size / Dimension: 0.079" L x 0.049" W (2.00mm x 1.25mm); Height - Seated (Max): -; Thickness (Max): 0.053" (1.35mm); Lead Spacing: -; Features: -; Packaging: Tape & Reel (TR); Lead Style: -; ComponentLink1URL: http://www.yuden.co.jp/productdata/catalog/en/mlcc01_e.pdf; ComponentLink1Description: http://www.yuden.co.jp/productdata/catalog/en/mlcc01_e.pdf; Supplier Part Number 1: 587-1305-2-ND
footprint RC0805
pins: 1, 2

## JMK212BJ475KG-T
designator C?, comment 4.7uF
CAP CER 4.7UF 6.3V 10% X5R 0805; Manufacturer: Taiyo Yuden; Manufacturer Part Number: JMK212BJ475KG-T; Capacitance: 4.7µF; OPI_VID: 101023; Supplier 1: Digi-Key; RoHS: RoHS Compliant; Category: Capacitors; Stock 1: 114000; Pricing 1: 3000=0.02419, 6000=0.02213, 9000=0.02059, 15000=0.01956, 30000=0.01853 (CAD); Voltage - Rated: 6.3V; Tolerance: ±10%; Temperature Coefficient: X5R; Mounting Type: Surface Mount, MLCC; Operating Temperature: -55°C ~ 85°C; Applications: General Purpose; Ratings: -; Package / Case: 0805 (2012 Metric); Size / Dimension: 0.079" L x 0.049" W (2.00mm x 1.25mm); Height - Seated (Max): -; Thickness (Max): 0.053" (1.35mm); Lead Spacing: -; Features: -; Packaging: Tape & Reel (TR); Lead Style: -; ComponentLink1URL: http://www.yuden.co.jp/productdata/catalog/en/mlcc01_e.pdf; ComponentLink1Description: http://www.yuden.co.jp/productdata/catalog/en/mlcc01_e.pdf; Supplier Part Number 1: 587-1302-2-ND
footprint RC0805
pins: 1, 2

## Jumper0603
designator JP?, comment Jumper  (value not drawn)
Jumper that can be cut to create an 0603 footprint
footprint Jumper0603 (Jumper made from an 0603 footprint)
pins: 1, 1

## LB Q39E-N1P1-35-1
designator LD?, comment BLUE
LED CHIPLED BLUE 470NM 0603 SMD; Manufacturer: OSRAM Opto Semiconductors Inc; Manufacturer Part Number: LB Q39E-N1P1-35-1; Millicandela Rating: 42mcd; Voltage - Forward (Vf) Typ: 2.85V; Current - Test: 5mA; Wavelength - Peak: 472nm; Viewing Angle: 135°, 155°; Lens Type: Diffused; Lens Style/Size: Rectangle with Flat Top, 1.1mm x 0.8mm; Luminous Flux @ Current - Test: 130 mlm; Population Option: YES; OPI_VID: 101210; Supplier 1: Digi-Key; Supplier Part Number 1: 475-2815-2-ND; RoHS: RoHS Compliant; Category: Optoelectronics; Stock 1: 16000; Pricing 1: 4000=0.15503 (CAD); Color: Blue; Wavelength - Dominant: 470nm; Package / Case: 0603 (1608 Metric); Size / Dimension: 1.60mm L x 0.80mm W; Height: 0.40mm; Mounting Type: Surface Mount; Packaging: Tape & Reel (TR); ComponentLink1URL: http://media.digikey.com/pdf/Data%20Sheets/Osram%20PDFs/LB_Q39E.pdf; ComponentLink1Description: http://media.digikey.com/pdf/Data%20Sheets/Osram%20PDFs/LB_Q39E.pdf; Fitted: YES
footprint LED0603 (Chip LED, 2-Leads, Body 1.7x0.8mm, IPC Medium Density)
pins: A, K

## LG L29K-G2J1-24-Z
designator LD?, comment GREEN
LED SMARTLED GREEN 570NM 0603; Manufacturer: OSRAM Opto Semiconductors Inc; Manufacturer Part Number: LG L29K-G2J1-24-Z; Millicandela Rating: 3.92mcd; Voltage - Forward (Vf) Typ: 1.7V; Current - Test: 2mA; Wavelength - Peak: 572nm; Viewing Angle: 160°; Lens Type: Diffused; Lens Style/Size: Rectangle with Flat Top, 1.3mm x 0.8mm; Luminous Flux @ Current - Test: 12 mlm; Population Option: YES; OPI_VID: 101211; Supplier 1: Digi-Key; Supplier Part Number 1: 475-2709-2-ND; RoHS: RoHS Compliant; Category: Optoelectronics; Stock 1: 30000; Pricing 1: 5000=0.08903, 15000=0.07894 (CAD); Color: Green; Wavelength - Dominant: 570nm; Package / Case: 0603 (1608 Metric); Size / Dimension: 1.70mm L x 0.80mm W; Height: 0.65mm; Mounting Type: Surface Mount; Packaging: Tape & Reel (TR); ComponentLink1URL: http://catalog.osram-os.com/catalogue/catalogue.do;jsessionid=32CB61882C089EDD4B6D0A54E7E1F117?act=downloadFile&favOid=020000020000138e000100b6; ComponentLink1Description: http://catalog.osram-os.com/catalogue/catalogue.do;jsessionid=32CB61882C089EDD4B6D0A54E7E1F117?act=downloadFile&favOid=020000020000138e000100b6; Fitted: YES
footprint LED0603 (Chip LED, 2-Leads, Body 1.7x0.8mm, IPC Medium Density)
pins: A, K

## LMK316BJ476ML-T
designator C?, comment 47uF
CAP CER 47UF 10V 20% X5R 1206; Manufacturer: Taiyo Yuden; Manufacturer Part Number: LMK316BJ476ML-T; Capacitance: 47µF; OPI_VID: 101319; Supplier 1: Digi-Key; Supplier Part Number 1: 587-1780-2-ND; RoHS: RoHS Compliant; Category: Capacitors; Stock 1: 38000; Pricing 1: 2000=0.20677, 4000=0.19298, 10000=0.18609, 14000=0.18333, 50000=0.17575 (CAD); Voltage - Rated: 10V; Tolerance: ±20%; Temperature Coefficient: X5R; Mounting Type: Surface Mount, MLCC; Operating Temperature: -55°C ~ 85°C; Applications: General Purpose; Ratings: -; Package / Case: 1206 (3216 Metric); Size / Dimension: 0.126" L x 0.063" W (3.20mm x 1.60mm); Height - Seated (Max): -; Thickness (Max): 0.071" (1.80mm); Lead Spacing: -; Features: -; Packaging: Tape & Reel (TR); Lead Style: -; ComponentLink1URL: http://www.yuden.co.jp/productdata/catalog/en/mlcc01_e.pdf; ComponentLink1Description: http://www.yuden.co.jp/productdata/catalog/en/mlcc01_e.pdf
footprint RC1206 (1206 Footprint)
pins: 1, 2

## LMK325BJ106MN-T
designator C?, comment 10uF, 10V
CAP CER 10UF 10V 20% X5R 1210; Manufacturer: Taiyo Yuden; Manufacturer Part Number: LMK325BJ106MN-T; Capacitance: 10µF; OPI_VID: 101472; Supplier 1: Digi-Key; RoHS: RoHS Compliant; Category: Capacitors; Stock 1: 36000; Pricing 1: 2000=0.15743, 4000=0.14759, 10000=0.13775, 14000=0.13529, 50000=0.12791 (CAD); Packaging: Tape & Reel (TR); Voltage - Rated: 10V; Tolerance: ±20%; Temperature Coefficient: X5R; Mounting Type: Surface Mount, MLCC; Operating Temperature: -55°C ~ 85°C; Applications: General Purpose; Ratings: -; Package / Case: 1210 (3225 Metric); Size / Dimension: 0.126" L x 0.098" W (3.20mm x 2.50mm); Height - Seated (Max): -; Thickness (Max): 0.083" (2.10mm); Lead Spacing: -; Features: -; Lead Style: -; ComponentLink1URL: http://www.yuden.co.jp/or/product/category/capacitor/LMK325BJ106MN-T.pdf; ComponentLink1Description: http://www.yuden.co.jp/or/product/category/capacitor/LMK325BJ106MN-T.pdf; Supplier Part Number 1: 587-2833-2-ND
footprint RC1210-a (1210 Footprint)
pins: 1, 2

## LP38692MP-ADJ/NOPB
designator U?, comment LP38692-ADJ
IC REG LDO ADJ 1A SOT223-5; Manufacturer: Texas Instruments; Manufacturer Part Number: LP38692MP-ADJ/NOPB; Number of Regulators: 1; Regulator Topology: Positive Adjustable; Voltage - Input: 2.7 V ~ 10 V; Voltage - Output: 1.25 V ~ 9 V; Voltage - Dropout (Typical): 0.45V @ 1A; OPI_VID: 101477; Supplier 1: Digi-Key; RoHS: RoHS Compliant; Category: Integrated Circuits (ICs); Stock 1: 5237; Pricing 1: 1=1.88, 10=1.664, 25=1.5016, 100=0.704, 250=0.69096, 500=0.67792 (CAD); Packaging: Cut Tape (CT); Current - Limit (Min): -; Current - Output: 1A; Operating Temperature: -40°C ~ 125°C; Mounting Type: Surface Mount; Package / Case: TO-261-5, TO-261AB; Supplier Device Package: SOT-223-5; ComponentLink1URL: http://www.ti.com/lit/ds/symlink/lp38690-adj.pdf; ComponentLink1Description: http://www.ti.com/lit/ds/symlink/lp38690-adj.pdf; Supplier Part Number 1: LP38692MP-ADJ/NOPBCT-ND
footprint SOT223 (SOT223, 5-Leads, Body 6.7x7.3mm (max), Pitch 1.50mm, IPC Medium Density)
pins: 1 VEN, 2 ADJ, 3 VOUT, 4 VIN, 5 GND

## LP38693MP-3.3/NOPB
designator U?, comment LP38693MP-3.3
IC REG LDO 500MA 3.3V SOT223-4; Manufacturer: National Semiconductor; Manufacturer Part Number: LP38693MP-3.3/NOPB; Regulator Topology: Positive Fixed; Voltage - Input: Up to 10V; Voltage - Dropout (Typical): 0.33V @ 500mA; Number of Regulators: 1; OPI_VID: 101178; Supplier 1: Digi-Key; Supplier Part Number 1: LP38693MP-3.3TR-ND; RoHS: RoHS Compliant; Category: Integrated Circuits (ICs); Stock 1: 2000; Pricing 1: 1000=0.79351, 3000=0.73882, 5000=0.71094, 10000=0.68413 (CAD); Voltage - Output: 3.3V; Current - Output: 500mA; Current - Limit (Min): -; Operating Temperature: -40°C ~ 125°C; Mounting Type: Surface Mount; Package / Case: TO-261-5, TO-261AB; Supplier Device Package: SOT-223-5; Packaging: Tape & Reel (TR); ComponentLink1URL: http://www.ti.com/lit/ds/symlink/lp38691.pdf; ComponentLink1Description: http://www.ti.com/lit/ds/symlink/lp38691.pdf
footprint SOT223 (SOT223, 5-Leads, Body 6.7x7.3mm (max), Pitch 1.50mm, IPC Medium Density)
pins: 1 VEN, 2 NC, 3 VOUT, 4 VIN, 5 GND

## LS L29K-G1J2-1-Z
designator LD?, comment RED
LED SMARTLED 630NM RED 0603 SMD; Manufacturer: OSRAM Opto Semiconductors Inc; Manufacturer Part Number: LS L29K-G1J2-1-Z; Millicandela Rating: 7.1mcd; Voltage - Forward (Vf) Typ: 1.8V; Current - Test: 2mA; Wavelength - Peak: 643nm; Viewing Angle: 160°; Lens Type: Diffused; Lens Style/Size: Rectangle with Flat Top, 1.3mm x 0.8mm; Luminous Flux @ Current - Test: 17 mlm; Population Option: YES; OPI_VID: 101212; Supplier 1: Digi-Key; Supplier Part Number 1: 475-2506-1-ND; RoHS: RoHS Compliant; Category: Optoelectronics; Stock 1: 7278; Pricing 1: 1=0.16, 10=0.138, 100=0.1099, 250=0.09616, 500=0.08792 (CAD); Color: Red; Wavelength - Dominant: 630nm; Package / Case: 0603 (1608 Metric); Size / Dimension: 1.70mm L x 0.80mm W; Height: 0.65mm; Mounting Type: Surface Mount; Packaging: Cut Tape (CT); ComponentLink1URL: http://catalog.osram-os.com/catalogue/catalogue.do;jsessionid=DB7CFDBAC5AF1E216E45F622E867085A?act=downloadFile&favOid=020000010003f9de000100b6; ComponentLink1Description: http://catalog.osram-os.com/catalogue/catalogue.do;jsessionid=DB7CFDBAC5AF1E216E45F622E867085A?act=downloadFile&favOid=020000010003f9de000100b6; Fitted: YES
footprint LED0603 (Chip LED, 2-Leads, Body 1.7x0.8mm, IPC Medium Density)
pins: A, K

## LTC3526LBEDC-2
designator U?
IC REG BOOST SYNC ADJ 0.55A 6DFN; Manufacturer: Linear Technology; Manufacturer Part Number: LTC3526LBEDC-2#TRMPBF; Output Type: Adjustable; Number of Outputs: 1; Voltage - Output: 1.5 V ~ 5.25 V; Voltage - Input: 0.5 V ~ 5.5 V; PWM Type: Current Mode, Burst Mode®; Frequency - Switching: 1MHz; Current - Output: 550mA; Synchronous Rectifier: Yes; OPI_VID: 101346; Supplier 1: Digi-Key; RoHS: RoHS Compliant; Category: Integrated Circuits (ICs); Stock 1: 500; Pricing 1: 500=2.4127 (CAD); Type: Step-Up (Boost); Operating Temperature: -40°C ~ 85°C; Mounting Type: Surface Mount; Package / Case: 6-WFDFN Exposed Pad; Packaging: Tape & Reel (TR); Supplier Device Package: 6-DFN (2x2); ComponentLink1URL: http://cds.linear.com/docs/Datasheet/3526llb2fa.pdf; ComponentLink1Description: http://cds.linear.com/docs/Datasheet/3526llb2fa.pdf; Supplier Part Number 1: LTC3526LBEDC-2#TRMPBFTR-ND
footprint LTC3526 (QFN, 6-Leads, Pitch 0.50mm, IPC Medium Density)
pins: 1 SW, 2 GND, 3 VIN, 4 ~{SHDN}, 5 FB, 6 VOUT, 7 DIE

## LY L29K-J1K2-26-Z
designator LD?, comment YELLOW
LED SMARTLED YELLOW 587NM 0603; Manufacturer: OSRAM Opto Semiconductors Inc; Manufacturer Part Number: LY L29K-J1K2-26-Z; Millicandela Rating: 7.85mcd; Voltage - Forward (Vf) Typ: 1.8V; Current - Test: 2mA; Wavelength - Peak: 591nm; Viewing Angle: 160°; Lens Type: Diffused; Lens Style/Size: Rectangle with Flat Top, 1.3mm x 0.8mm; Luminous Flux @ Current - Test: 32 mlm; Population Option: YES; OPI_VID: 101209; Supplier 1: Digi-Key; Supplier Part Number 1: 475-2794-2-ND; RoHS: RoHS Compliant; Category: Optoelectronics; Stock 1: 15000; Pricing 1: 5000=0.08903, 15000=0.07894 (CAD); Color: Yellow; Wavelength - Dominant: 587nm; Package / Case: 0603 (1608 Metric); Size / Dimension: 1.70mm L x 0.80mm W; Height: 0.65mm; Mounting Type: Surface Mount; Packaging: Tape & Reel (TR); ComponentLink1URL: http://catalog.osram-os.com/catalogue/catalogue.do;jsessionid=DB7CFDBAC5AF1E216E45F622E867085A?act=downloadFile&favOid=020000010003f9de000100b6; ComponentLink1Description: http://catalog.osram-os.com/catalogue/catalogue.do;jsessionid=DB7CFDBAC5AF1E216E45F622E867085A?act=downloadFile&favOid=020000010003f9de000100b6; Fitted: YES
footprint LED0603 (Chip LED, 2-Leads, Body 1.7x0.8mm, IPC Medium Density)
pins: A, K

## M20-9960245
designator P?, comment Header 1x2 RA
SIL HORIZ PC TAIL PIN HEADER; Manufacturer: Harwin Inc; Manufacturer Part Number: M20-9960245; Connector Type: Header, Unshrouded, Breakaway; Number of Positions: 2; Number of Positions Loaded: All; Pitch: 0.100" (2.54mm); OPI_VID: 101483; Supplier 1: Digi-Key; Supplier Part Number 1: 952-2244-ND; RoHS: RoHS Compliant; Category: Connectors, Interconnects; Stock 1: 1174; Pricing 1: 1=0.31, 10=0.18, 25=0.1288, 50=0.0978, 100=0.0798, 250=0.06692, 500=0.06178, 1000=0.05406, 2500=0.04119 (CAD); Packaging: Bulk; Contact Type: Male Pin; Number of Rows: 1; Row Spacing: -; Contact Mating Length: 0.240" (6.10mm); Mounting Type: Through Hole, Right Angle; Termination: Solder; Fastening Type: -; Features: -; Contact Finish: Gold; Contact Finish Thickness: -; Color: Black; ComponentLink1URL: http://www.harwin.com/include/downloads/drawings/M20-996.PDF; ComponentLink1Description: http://www.harwin.com/include/downloads/drawings/M20-996.PDF
footprint HDR1X2 (Connector; Header; 2 Position)
pins: 1, 2

## M25P80-VMW6TG
designator U?, comment M25P80-VMW6TGTR
IC FLASH 8MBIT 75MHZ 8SO; Manufacturer: Micron Technology Inc; Memory Type: FLASH - NOR; Memory Size: 8M (1M x 8); Interface: SPI Serial; Voltage - Supply: 2.7 V ~ 3.6 V; OPI_VID: 101427; Supplier 1: Digi-Key; Supplier Part Number 1: M25P80-VMW6TGTR-ND; Manufacturer Part Number: M25P80-VMW6TG; RoHS: RoHS Compliant; Category: Integrated Circuits (ICs); Stock 1: 19500; Pricing 1: 1500=0.84905, 3000=0.79956, 4500=0.78185, 7500=0.77352, 10500=0.76831, 15000=0.748, 37500=0.7032 (CAD); Format - Memory: FLASH; Speed: 75MHz; Operating Temperature: -40°C ~ 85°C; Package / Case: 8-SOIC (0.209", 5.30mm Width); Supplier Device Package: 8-SO W; Packaging: Tape & Reel (TR); ComponentLink1URL: http://media.digikey.com/pdf/Data%20Sheets/Numonyx,Intel/M25P80.pdf; ComponentLink1Description: http://media.digikey.com/pdf/Data%20Sheets/Numonyx,Intel/M25P80.pdf
footprint SOIC-8-WIDE (SOIC, 8-Leads, Body 5.29x5.29mm, Pitch 1.27mm, IPC Medium Density)
pins: 1 S#, 2 DQ1, 3 W#, 4 GND, 5 DQ0, 6 C, 7 HOLD#, 8 VCC

## MAX232DR
designator U?
IC DUAL EIA-232 DRVR/RCVR 16SOIC; Manufacturer 1: Texas Instruments; Category 1: Integrated Circuits (ICs); Number of Drivers/Receivers: 2/2; Protocol: RS232; Voltage - Supply: 4.5 V ~ 5.5 V; OPI_VID: 101050; Supplier 1: Digi-Key; Supplier Part Number 1: 296-14619-2-ND; RoHS 1: RoHS Compliant; Description 1: IC DUAL EIA-232 DRVR/RCVR 16SOIC; Stock 1: 47500; Pricing 1: 2500=0.42, 5000=0.399 (USD); Type: Transceiver; Mounting Type: Surface Mount; Package / Case: 16-SOIC (0.154", 3.90mm Width); Packaging: Tape & Reel (TR); Supplier Device Package: 16-SOICN; ComponentLink1URL: http://focus.ti.com/lit/ds/symlink/max232.pdf; ComponentLink1Description: http://focus.ti.com/lit/ds/symlink/max232.pdf; Manufacturer Part Number 1: MAX232DR
footprint SOIC127P600X175-16M (SOIC, 16-Leads, Body 10.0x4.0mm (max), Pitch 1.27mm, IPC Low Density)
pins: 1 C1+, 2 VS+ (power), 3 C1-, 4 C2+, 5 C2-, 6 VS- (power), 7 T2~{OUT} (out), 8 R2IN (in), 9 R2~{OUT} (out), 10 T2IN (in), 11 T1IN (in), 12 R1~{OUT} (out), 13 R1IN (in), 14 T1~{OUT} (out), 15 GND (power), 16 VCC (power)

## MAX3221ECPWR
designator U?, comment MAX3221E
IC RS232 3V-5.5V DRVR 16-TSSOP; Manufacturer: Texas Instruments; Manufacturer Part Number: MAX3221ECPWR; Number of Drivers/Receivers: 1/1; Voltage - Supply: 3 V ~ 5.5 V; OPI_VID: xxxxx; Supplier 1: Digi-Key; Supplier Part Number 1: 296-19825-2-ND; RoHS: RoHS Compliant; Category: Integrated Circuits (ICs); Stock 1: 26000; Pricing 1: 2000=0.83112, 6000=0.80034, 10000=0.76956, 50000=0.73877 (CAD); Packaging: Tape & Reel (TR); Type: Transceiver; Protocol: RS232; Mounting Type: Surface Mount; Package / Case: 16-TSSOP (0.173", 4.40mm Width); Supplier Device Package: 16-TSSOP; ComponentLink1URL: http://www.ti.com/lit/ds/symlink/max3221e.pdf; ComponentLink1Description: http://www.ti.com/lit/ds/symlink/max3221e.pdf
pins: 1 ~{EN} (in), 2 C1+, 3 V+, 4 C1-, 5 C2+, 6 C2-, 7 V-, 8 RIN (in), 9 ROUT (out), 10 ~{INVALID} (out), 11 DIN (in), 12 FORCEON (in), 13 DOUT (out), 14 GND (power), 15 VCC (power), 16 ~{FORCEOFF} (in)

## MDSM-4R 12-18
designator SW?, comment MDSM-4R Reed Switch
SWITCH REED MAG SMT 12-18AT; Manufacturer: Hamlin Inc; Manufacturer Part Number: MDSM-4R 12-18; Circuit: SPST-NO; Must Operate: 12 ~ 18AT; Switching Current (DC) (Max): 500mA; Switching Voltage (DC) (Max): 200V; Switching Power (Max): 10W; Magnet: Not Specified; OPI_VID: 101384; Supplier 1: Digi-Key; RoHS: RoHS Compliant; Category: Switches; Stock 1: 48000; Pricing 1: 3000=0.36238, 6000=0.35513, 12000=0.34788 (CAD); Type: Glass Body; Must Release: -; Mounting Type: PCB, Surface Mount; Termination Style: Gull Wing; Packaging: Tape & Reel (TR); ComponentLink1URL: http://www.hamlin.com/specsheets/MDSM-4.pdf; ComponentLink1Description: http://www.hamlin.com/specsheets/MDSM-4.pdf; Supplier Part Number 1: HE151TR-ND
footprint MDSM-4 (Reed Switch, 2-Leads, Body 16x2.84mm, IPC Medium Density)
pins: 1, 2

## MI0805K400R-10
designator FB?, comment 40R Ferrite Bead  (value not drawn)
Ferrite Bead, 40R, 0805, Laird; Manufacturer: Laird-Signal Integrity Products; Manufacturer Part Number: MI0805K400R-10; Impedance @ Frequency: 40 Ohm @ 100MHz; Current Rating: 1.5A; DC Resistance (DCR): 50 mOhm Max; Filter Type: Differential Mode - Single; Number of Lines: 1; OPI_VID: 101030; Supplier 1: Digi-Key; Supplier Part Number 1: 240-2389-2-ND; RoHS: RoHS Compliant; Category: Filters; Stock 1: 184000; Pricing 1: 4000=0.042, 8000=0.04, 12000=0.039, 28000=0.036, 52000=0.034, 100000=0.03 (USD); Package / Case: 0805 (2012 Metric); Mounting Type: Surface Mount; Packaging: Tape & Reel (TR); ComponentLink1URL: http://www.steward.com/view_print.asp?St_PartNo=MI0805K400R-10; ComponentLink1Description: http://www.steward.com/view_print.asp?St_PartNo=MI0805K400R-10
footprint INDC2012X11N (Chip Inductor, 2-Leads, Body 2.0x1.3mm, IPC Medium Density)
pins: 1, 2

## MINISMDC014F-2
designator F?
POLYSWITCH .14A RESET FUSE SMD; Manufacturer: TE Connectivity; Current - Hold (Ih) (Max): 140mA; Current - Trip (It): 280mA; Current - Max: 10A; Voltage - Max: 60V; R Min/Max: 1.500 ~ 6.000 Ohm; Time to Trip: 0.008s; OPI_VID: xxxxx; Supplier 1: Digi-Key; Supplier Part Number 1: MINISMDC014FTR-ND; Manufacturer Part Number: MINISMDC014F-2; RoHS: RoHS Compliant; Category: Circuit Protection; Stock 1: 154000; Pricing 1: 2000=0.1851, 6000=0.1718, 10000=0.14409, 26000=0.13855, 50000=0.13301 (CAD); Package / Case: 1812 (4532 Metric), Concave; Packaging: Tape & Reel (TR); ComponentLink1URL: http://documents.tycoelectronics.com/commerce/DocumentDelivery/DDEController?Action=showdoc&DocId=Specification+Or+Standard%7FSCD25113%7FI%7Fpdf%7FEnglish%7FENG_SS_SCD25113_I.pdf; ComponentLink1Description: http://documents.tycoelectronics.com/commerce/DocumentDelivery/DDEController?Action=showdoc&DocId=Specification+Or+Standard%7FSCD25113%7FI%7Fpdf%7FEnglish%7FENG_SS_SCD25113_I.pdf
footprint MINISMD050 (Polyfuse,)
pins: 1, 2

## MINISMDC050F-2
designator F?
POLYSWITCH .50A RESET FUSE SMD; Manufacturer: TE Connectivity; Voltage - Max: 24V; Current - Max: 100A; Current - Hold (Ih) (Max): 500mA; Current - Trip (It): 1A; R Min/Max: 0.150 ~ 1.000 Ohm; Time to Trip: 0.15s; OPI_VID: 101164; Supplier 1: Digi-Key; Supplier Part Number 1: MINISMDC050FTR-ND; Manufacturer Part Number: MINISMDC050F-2; RoHS: RoHS Compliant; Category: Circuit Protection; Stock 1: 166000; Pricing 1: 2000=0.19128, 6000=0.17753, 10000=0.1489, 26000=0.14317, 50000=0.13745 (CAD); Package / Case: 1812 (4532 Metric), Concave; Packaging: Tape & Reel (TR); ComponentLink1URL: http://documents.tycoelectronics.com/commerce/DocumentDelivery/DDEController?Action=showdoc&DocId=Specification+Or+Standard%7FSCD25063%7FH%7Fpdf%7FEnglish%7FENG_SS_SCD25063_H.pdf; ComponentLink1Description: http://documents.tycoelectronics.com/commerce/DocumentDelivery/DDEController?Action=showdoc&DocId=Specification+Or+Standard%7FSCD25063%7FH%7Fpdf%7FEnglish%7FENG_SS_SCD25063_H.pdf
footprint MINISMD050
pins: 1, 2

## MINISMDC075F-2
designator F?
POLYSWITCH .75A RESET FUSE SMD; Manufacturer: TE Connectivity; Current - Hold (Ih) (Max): 750mA; Current - Trip (It): 1.5A; Current - Max: 100A; Voltage - Max: 13.2V; R Min/Max: 0.110 ~ 0.450 Ohm; Time to Trip: 0.2s; OPI_VID: xxxxx; Supplier 1: Digi-Key; Supplier Part Number 1: MINISMDC075FTR-ND; Manufacturer Part Number: MINISMDC075F-2; RoHS: RoHS Compliant; Category: Circuit Protection; Stock 1: 44000; Pricing 1: 2000=0.18692, 6000=0.17349, 10000=0.1455, 26000=0.13991, 50000=0.13431 (CAD); Package / Case: 1812 (4532 Metric), Concave; Packaging: Tape & Reel (TR); ComponentLink1URL: http://documents.tycoelectronics.com/commerce/DocumentDelivery/DDEController?Action=showdoc&DocId=Specification+Or+Standard%7FSCD25114%7FH%7Fpdf%7FEnglish%7FENG_SS_SCD25114_H.pdf; ComponentLink1Description: http://documents.tycoelectronics.com/commerce/DocumentDelivery/DDEController?Action=showdoc&DocId=Specification+Or+Standard%7FSCD25114%7FH%7Fpdf%7FEnglish%7FENG_SS_SCD25114_H.pdf
footprint MINISMD050 (Polyfuse,)
pins: 1, 2

## MINISMDC110F-2
designator F?
POLYSWITCH 1.1A RESET FUSE SMD; Manufacturer: TE Connectivity; Current - Trip (It): 2.2A; Current - Max: 100A; Voltage - Max: 8V; R Min/Max: 0.040 ~ 0.210 Ohm; Time to Trip: 0.3s; OPI_VID: 101205; Supplier 1: Digi-Key; Manufacturer Part Number: MINISMDC110F-2; RoHS: RoHS Compliant; Category: Circuit Protection; Stock 1: 24000; Pricing 1: 2000=0.17214, 6000=0.15977, 10000=0.134, 26000=0.12885, 50000=0.12369 (CAD); Current - Hold (Ih) (Max): 1.1A; Package / Case: 1812 (4532 Metric), Concave; Packaging: Tape & Reel (TR); ComponentLink1URL: http://www.te.com/commerce/DocumentDelivery/DDEController?Action=srchrtrv&DocNm=SCD25273&DocType=Customer+Drawing&DocLang=English; ComponentLink1Description: http://www.te.com/commerce/DocumentDelivery/DDEController?Action=srchrtrv&DocNm=SCD25273&DocType=Customer+Drawing&DocLang=English; Supplier Part Number 1: MINISMDC110FTR-ND
footprint MINISMDC260F (Polyfuse, Body 45x32mm, Case 1812)
pins: 1, 2